# Altium schematic symbol library MCU_ST_STM32G0.SchLib: 2 symbols
Pins are listed as number, name and electrical type; pins without a type are passive.

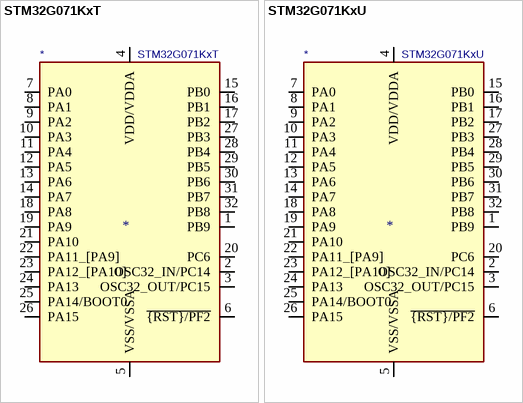
[diagram p0: symbols STM32G071KxT to STM32G071KxU]

## STM32G071KxT
designator *  value STM32G071KxT
ki_keywords: ARM Cortex-M0+ STM32G0 STM32G071; ki_description: ARM Cortex-M0+ MCU, 64/128 kB flash, 36 kB SRAM, 64 MHz, 1.7-3.6 V, 30 GPIO, LQFP-32; ki_fp_filters: LQFP*7x7mm*P0.8mm*; Footprint: Package_QFP:LQFP-32_7x7mm_P0.8mm; Supplier: https://www.st.com/resource/en/datasheet/stm32g071kb.pdf
footprint LQFP-32_7x7mm_P0.8mm
pins: 1 PB9 (io), 2 OSC32_IN/PC14 (io), 3 OSC32_OUT/PC15 (io), 4 VDD/VDDA (power), 5 VSS/VSSA (power), 6 ~{{RST}/PF2} (io), 7 PA0 (io), 8 PA1 (io), 9 PA2 (io), 10 PA3 (io), 11 PA4 (io), 12 PA5 (io), 13 PA6 (io), 14 PA7 (io), 15 PB0 (io), 16 PB1 (io), 17 PB2 (io), 18 PA8 (io), 19 PA9 (io), 20 PC6 (io), 21 PA10 (io), 22 PA11_[PA9] (io), 23 PA12_[PA10] (io), 24 PA13 (io), 25 PA14/BOOT0 (io), 26 PA15 (io), 27 PB3 (io), 28 PB4 (io), 29 PB5 (io), 30 PB6 (io), 31 PB7 (io), 32 PB8 (io)

## STM32G071KxU
designator *  value STM32G071KxU
ki_keywords: ARM Cortex-M0+ STM32G0 STM32G071; ki_description: ARM Cortex-M0+ MCU, 64/128 kB flash, 36 kB SRAM, 64 MHz, 1.7-3.6 V, 30 GPIO, UFQFPN-32; ki_fp_filters: UFQFPN*1EP*5x5mm*P0.5mm*; Footprint: Package_DFN_QFN:UFQFPN-32-1EP_5x5mm_P0.5mm_EP3.5x3.5mm_ThermalVias; Supplier: https://www.st.com/resource/en/datasheet/stm32g071kb.pdf
footprint UFQFPN-32-1EP_5x5mm_P0.5mm_EP3.5x3.5mm_ThermalVias
pins: 1 PB9 (io), 2 OSC32_IN/PC14 (io), 3 OSC32_OUT/PC15 (io), 4 VDD/VDDA (power), 5 VSS/VSSA (power), 6 ~{{RST}/PF2} (io), 7 PA0 (io), 8 PA1 (io), 9 PA2 (io), 10 PA3 (io), 11 PA4 (io), 12 PA5 (io), 13 PA6 (io), 14 PA7 (io), 15 PB0 (io), 16 PB1 (io), 17 PB2 (io), 18 PA8 (io), 19 PA9 (io), 20 PC6 (io), 21 PA10 (io), 22 PA11_[PA9] (io), 23 PA12_[PA10] (io), 24 PA13 (io), 25 PA14/BOOT0 (io), 26 PA15 (io), 27 PB3 (io), 28 PB4 (io), 29 PB5 (io), 30 PB6 (io), 31 PB7 (io), 32 PB8 (io), 33 VSS/VSSA hidden